# EAGLE library part MICROBUILDER_MIC_I2S (library LinnesLab-Sensors)
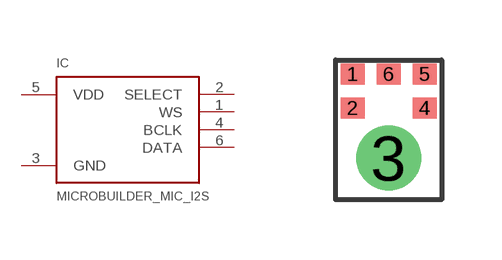
[diagram p29: symbol with the pads of MICROBUILDER_SPH0645LM4H; footprint MICROBUILDER_SPH0645LM4H]

Designator prefix IC

## MICROBUILDER_MIC_I2S_SPH0645  [MICROBUILDER_SPH0645LM4H]
1  WS  in
2  SELECT  in
3  GND  pwr
4  BCLK  in
5  VDD  pwr
6  DATA  out

## Footprint MICROBUILDER_SPH0645LM4H (pad centres in mm)
smd 0.6 x 0.525: 1 -0.9,1.4; 2 -0.9,0.55; 4 0.9,0.55; 5 0.9,1.4; 6 0,1.4
drill 1.025 pad 1.625: 3 0,-0.71